# Altium footprint library Buck.PcbLib: 30 footprints (part 1 of 2)
Each footprint in its own frame and in the unit in brackets; x right, y up, seen from the top. Pads: shape width x height; smd on the part's side, far side on the other; paste and mask are expansions set on the pad; w line width, h text height; cw(c..) or ccw(c..) is an arc to the next point about the centre after c.
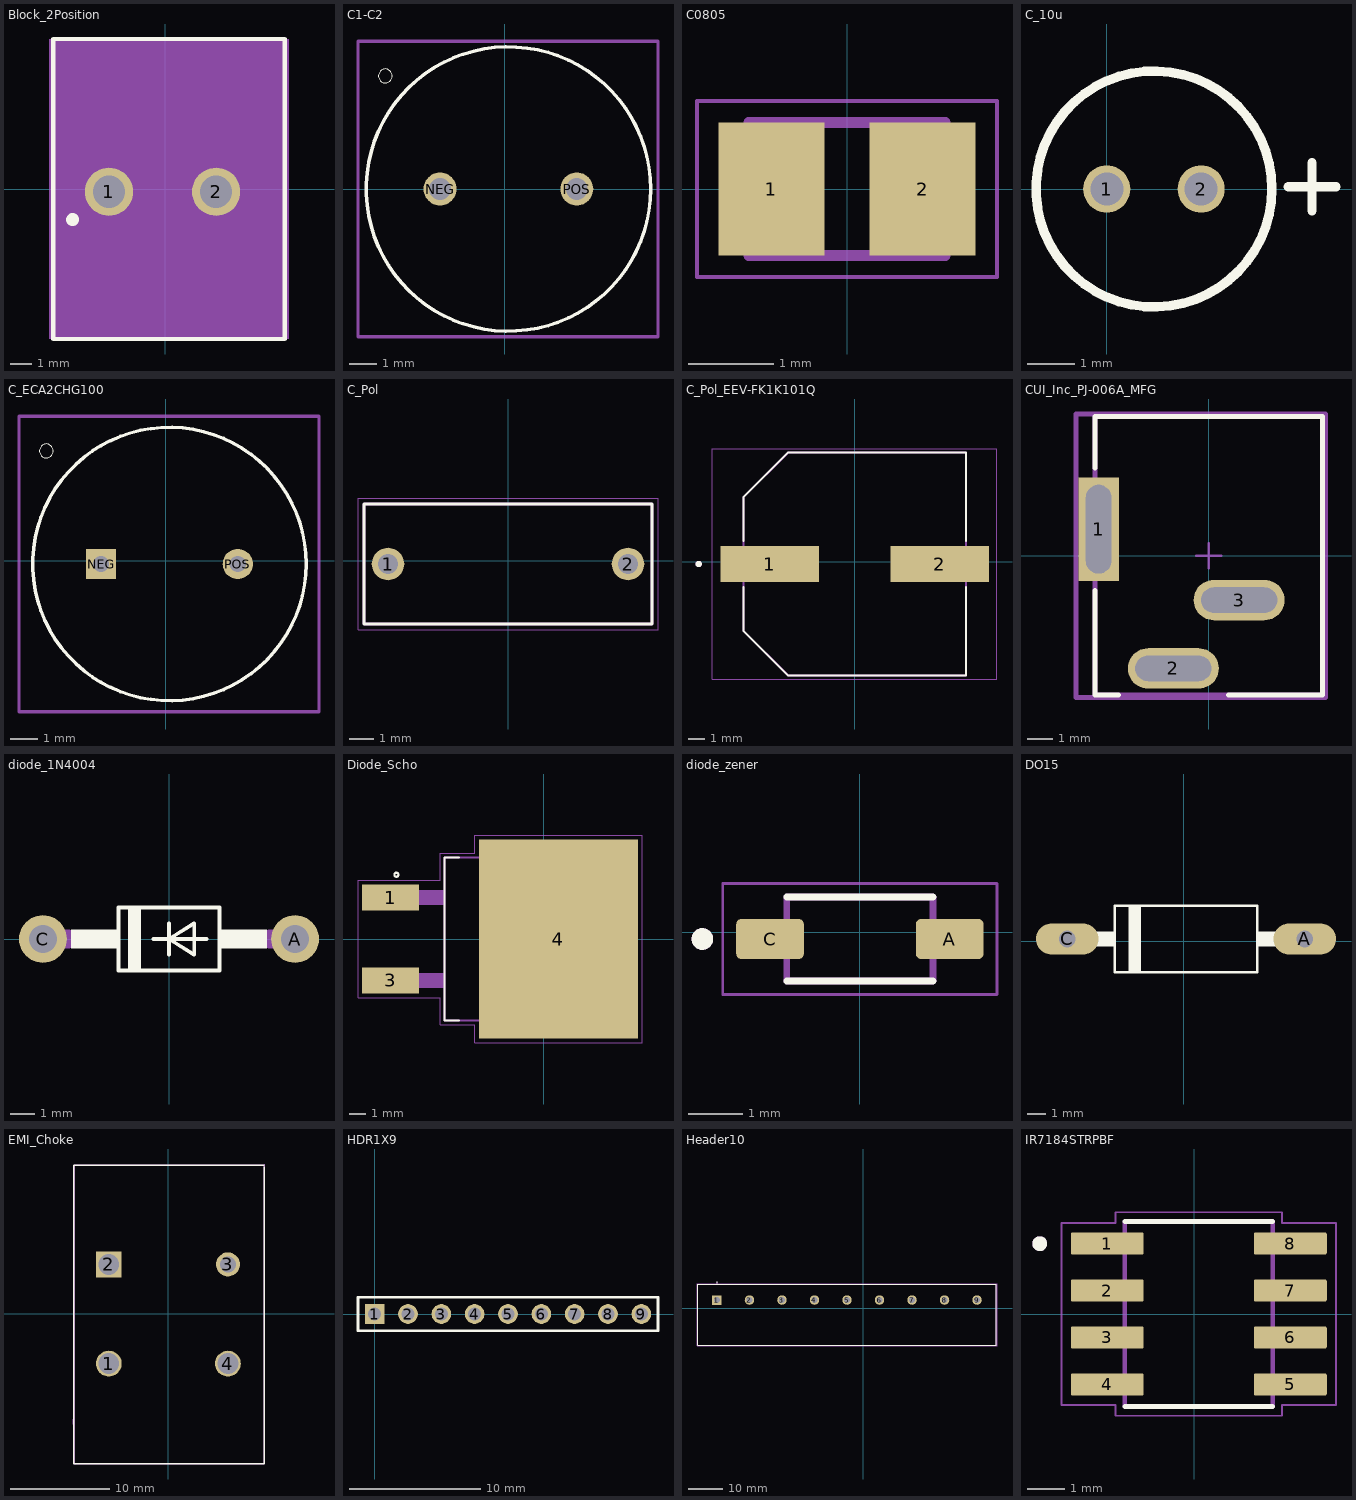
[diagram p0: the footprints below, top view; thin cyan lines are the x and y axes]

## Block_2Position [mm]
pads (2):
  round 2.25 hole 1.5: 1(-2.627,-0.127) 2(2.373,-0.127)
Top Overlay:
  circle w0.4: c-4.327,-1.427 r0.1
  lines w0.2: -5.227,-7 5.573,-7 5.573,-4.387 5.573,-3.157 5.573,4.263 5.573,6.985 ; -5.227,-6.985 -5.227,4.673 -5.227,7 5.573,7
Mechanical 13:
  lines w0.1: -5.127,-6.985 5.473,-6.985 5.473,-4.287 5.473,-3.257 5.473,4.363 5.473,6.985 -5.127,6.985 -5.127,4.573 -5.127,-6.985
Mechanical 15:
  region: 5.773,-6.985 -5.427,-6.985 -5.427,6.985 5.773,6.985
3D body: height 16, standoff 0, extent -5.227,-7 5.573,7

## C1-C2 [mm]
pads (2):
  round 1.208 hole 0.8: NEG(-2.373,0) POS(2.627,0)
Top Overlay:
  circle w0.127: c0.127,0 r5.2
  circle w0: c-4.373,4.135 r0.254
Mechanical 15:
  lines w0.127: -5.373,-5.4 5.597,-5.4 5.597,5.4 -5.373,5.4 -5.373,-5.4
3D body: height 15, standoff 0, extent -5.073,-5.197 5.327,5.197

## C0805 [mm]
pads (2):
  rect 1.24x1.56 smd: 1(-0.885,0) 2(0.885,0)
Mechanical 13:
  lines w0.127: -1.15,-0.78 -1.15,0.78 1.15,0.78 1.15,-0.78 -1.15,-0.78
Mechanical 15:
  lines w0.05: -1.755,-1.03 -1.755,1.03 1.755,1.03 1.755,-1.03 -1.755,-1.03
3D body "rsmd-0805_l2_w1-25_h0-6.stp": height 0.6, standoff 0, extent -1,-0.625 1,0.625

## C_10u [mm]
height 10
pads (2):
  round 1 hole 0.7: 1(0,0) 2(2,0)
Top Overlay:
  circle w0.2: c1,0 r2.5
  lines w0.2: 3.842,0.05 4.858,0.05 ; 4.35,-0.458 4.35,0.558
3D body: height 10, standoff 0, extent -1.5,-2.497 3.5,2.497
3D body: height 0.25, standoff 0, extent 1,0 1,0

## C_ECA2CHG100 [mm]
pads (2):
  rect 1.108x1.108 hole 0.6: NEG(-2.373,-0.127)
  round 1.108 hole 0.6: POS(2.627,-0.127)
Top Overlay:
  circle w0.127: c0.127,-0.127 r5
  circle w0: c-4.373,4.008 r0.254
Mechanical 15:
  lines w0.127: -5.373,-5.527 5.597,-5.527 5.597,5.273 -5.373,5.273 -5.373,-5.527
3D body: height 15, standoff 0, extent -5.073,-5.324 5.327,5.07

## C_Pol [mm]
pads (2):
  round 1.358 hole 0.85: 1(-5,-0.127) 2(5,-0.127)
Top Overlay:
  lines w0.127: -6,-2.627 6,-2.627 6,2.373 -6,2.373 -6,-2.627
Mechanical 13:
  lines w0.127: -6,-2.627 -6,2.373 6,2.373 6,-2.627 -6,-2.627
Mechanical 15:
  lines w0.05: -6.25,-2.877 -6.25,2.623 6.25,2.623 6.25,-2.877 -6.25,-2.877
3D body "step_temp.STEP": height 15, standoff -25, extent -6,-2.627 6,2.373

## C_Pol_EEV-FK1K101Q [mm]
pads (2):
  rect 6.06x2.21 smd: 1(-5.225,-0.127) 2(5.225,-0.127)
Top Overlay:
  circle w0.2: c-9.6,-0.127 r0.1
  lines w0.127: -6.85,-1.547 -6.85,-4.237 -4.11,-6.979 6.85,-6.977 6.85,-1.547 ; -6.85,1.293 -6.85,3.983 -4.11,6.725 6.85,6.723 6.85,1.293
Mechanical 13:
  circle w0.2: c-9.6,-0.127 r0.1
  lines w0.127: -6.85,-4.237 -4.1,-6.977 6.85,-6.977 6.85,6.723 -4.1,6.723 -6.85,3.983 -6.85,-4.237
Mechanical 15:
  lines w0.05: -8.76,-7.227 -8.76,6.973 8.76,6.973 8.76,-7.227 -8.76,-7.227
3D body "CAP-H13.step": height 13.8, standoff 0, extent -6.8,-6.77 6.8,6.77

## CUI_Inc_PJ-006A_MFG [mm]
pads (3):
  rect 1.6x4.1 hole 3.5 slot 1 at 0 deg paste-1000 mask+0: 1(-4.35,1.05)
  rrect100% 3.6x1.6 hole 1 slot 3 at 0 deg paste-1000 mask+0: 2(-1.4,-4.45) 3(1.2,-1.75)
Top Overlay:
  lines w0.2: -4.5,-1.375 -4.5,-5.5 -3.575,-5.5 ; -4.5,3.475 -4.5,5.5 4.5,5.5 4.5,-5.5 0.775,-5.5
Mechanical 10:
  lines w0.2: -5.25,-5.6 4.6,-5.6 4.6,5.6 -5.25,5.6 -5.25,-5.6
  text ".Designator" at -0.325,0 h1
Mechanical 12:
  lines w0.2: -4.5,-5.5 4.5,-5.5 4.5,5.5 -4.5,5.5 -4.5,-5.5
Mechanical 15:
  lines w0.1: -0.5,0 0.5,0 ; 0,-0.5 0,0.5
  lines w0.2: -5.25,-5.6 4.6,-5.6 4.6,5.6 -5.25,5.6 -5.25,-5.6
3D body "Conn_CUI_Inc_PJ-006A_eec.STEP": height 0.25, standoff 0, extent -5.25,-5.6 4.6,5.6

## diode_1N4004 [mil]
pads (2):
  round 76 hole 44: A(200,0) C(-200,0)
Top Overlay:
  region: 155,-15 80,-15 80,15 155,15
  region: -80,-15 -155,-15 -155,15 -80,15
  region: -45,-50 -65,-50 -65,50 -45,50
  lines w6: -25,0 0,0 ; 0,-25 0,0 ; 0,25 0,0 ; 60,0 0,0 ; 0,0 40,25 40,-25 0,0 ; -80,-50 80,-50 80,50 -80,50 -80,-50
Mechanical 13:
  lines w30: -200,0 -160,0 ; 160,0 200,0
3D body "Diode 1N4001.stp": height 98.43, standoff -90.55, extent -197.87,-44.21 217.88,54.22

## Diode_Scho [mm]
pads (3):
  rect 3.5x1.6 smd: 1(-9.367,2.54) 3(-9.367,-2.54)
  rect 9.75x12.2 smd paste-7: 4(0.908,0)
Top Overlay:
  circle w0.127: c-9.017,3.937 r0.127
  lines w0.127: -5.182,-5 -6.067,-5 -6.067,5 -5.182,5
Top Paste:
  region: -1.357,2.362 -2.737,2.362 -2.737,3.83 -1.357,3.83
  region: 0.613,2.362 -0.766,2.362 -0.766,3.83 0.613,3.83
  region: -1.357,-3.834 -2.737,-3.834 -2.737,-2.36 -1.357,-2.36
  region: 0.613,-3.835 -0.765,-3.835 -0.765,-2.36 0.613,-2.36
  region: 0.613,-1.766 -0.765,-1.766 -0.765,-0.295 0.613,-0.295
  region: 0.613,0.295 -0.765,0.295 -0.765,1.765 0.613,1.765
  region: -1.357,0.296 -2.737,0.296 -2.737,1.765 -1.357,1.765
  region: -1.357,-1.767 -2.737,-1.767 -2.737,-0.295 -1.357,-0.295
  region: 4.553,-3.837 3.183,-3.837 3.183,-2.36 4.553,-2.36
  region: 2.583,-3.836 1.209,-3.836 1.209,-2.36 2.583,-2.36
  region: 4.553,2.362 3.177,2.362 3.177,3.83 4.553,3.83
  region: 2.583,2.362 1.207,2.362 1.207,3.83 2.583,3.83
  region: 2.583,0.295 1.209,0.295 1.209,1.765 2.583,1.765
  region: 2.583,-1.767 1.208,-1.767 1.208,-0.295 2.583,-0.295
  region: 4.553,-1.766 3.177,-1.766 3.177,-0.295 4.553,-0.295
  region: 4.553,0.295 3.183,0.295 3.183,1.765 4.553,1.765
Mechanical 13:
  region: -6.067,-2.996 -10.883,-2.996 -10.883,-2.09 -6.067,-2.09
  region: -6.067,2.094 -10.882,2.094 -10.882,2.99 -6.067,2.99
  lines w0.127: -6.067,-5 -6.067,5 4.733,5 4.733,-5 -6.067,-5
Mechanical 15:
  lines w0.05: -11.367,-3.6 -11.367,3.6 -6.317,3.6 -6.317,5.25 -4.217,5.25 -4.217,6.35 6.033,6.35 6.033,-6.35 -4.217,-6.35 -4.217,-5.25 -6.317,-5.25 -6.317,-3.6 -11.367,-3.6
3D body "D2PAK-2 L7805.step": height 5.08, standoff 0, extent -9.575,-4.975 6.05,5.025

## diode_zener [mm]
pads (2):
  rrect25% 1.25x0.74 smd: A(1.66,-0.127) C(-1.66,-0.127)
Top Overlay:
  circle w0.2: c-2.91,-0.127 r0.1
  lines w0.127: -1.35,-0.902 1.35,-0.902 ; -1.35,0.648 1.35,0.648
Mechanical 13:
  circle w0.2: c-2.91,-0.127 r0.1
  lines w0.127: -1.35,-0.902 1.35,-0.902 1.35,0.648 -1.35,0.648 -1.35,-0.902
Mechanical 15:
  lines w0.05: -2.535,-1.152 2.535,-1.152 2.535,0.898 -2.535,0.898 -2.535,-1.152

## DO15 [mil]
pads (2):
  oval 132x66 hole 35.43: A(255,5) C(-245,5)
Top Overlay:
  region: -90,-65.18 -115.3,-65.18 -115.3,75 -90,75
  region: -145,-10.05 -200.63,-10.05 -200.63,20 -145,20
  region: 210,-10.02 155.16,-10.02 155.16,20 210,20
  lines w6: -145,-65 155,-65 155,75 -145,75 -145,-65
Mechanical 13:
  lines w30: -245,5 -205,5 ; 215,5 255,5
3D body "TVS_DO-204AC_DO-15.stp": height 161.42, standoff -118.11, extent -319.68,-65.86 319.69,75.87

## EMI_Choke [mm]
pads (4):
  round 2.6 hole 2.1: 1(-6,-5) 4(6,-5)
  rect 2.6x2.6 hole 2.1: 2(-6,5)
  round 2.43 hole 1.62: 3(6,5)
Top Overlay:
  lines w0.127: 9.652,14.859 9.652,-15.113 -9.525,-15.113 -9.525,14.986 9.652,14.986
Top Paste:
  lines w0.254: -9.525,-10.668 -9.525,-10.795 -6.35,-13.97 -6.35,-14.859
Mechanical 1:
  lines w0.254: -9.525,-11.049 -9.525,-10.668
Mechanical 13:
  lines w0.127: -9.5,-15 -9.5,15 9.5,15 ; -9.398,-15.113 9.652,-15.113 ; 9.652,-14.351 9.652,15.113
Mechanical 15:
  lines w0.05: -9.525,-15.113 9.652,-15.113 9.652,14.986 -9.525,14.986 -9.525,-15.113
3D body "7448042001 (rev1).stp": height 25.72, standoff -4.75, extent -9.339,-13.911 8.661,13.589

## HDR1X9 [mm] "Connector; Header; 9 Position"
pads (9):
  rect 1.5x1.5 hole 1: 1(0,0)
  round 1.5 hole 1: 2(2.54,0) 3(5.08,0) 4(7.62,0) 5(10.16,0) 6(12.7,0) 7(15.24,0) 8(17.78,0) 9(20.32,0)
Top Overlay:
  lines w0.2: -1.27,-1.27 -1.27,1.27 21.59,1.27 21.59,-1.27 -1.27,-1.27
3D body "zl201-9_p2-54_l22-9_w2-54_h8-89.stp": height 8.89, standoff -3.05, extent -1.27,-1.27 21.59,1.27

## Header10 [mm]
pads (9):
  rect 2.775x2.775 hole 1.85: 1(-42.819,2.413)
  round 2.775 hole 1.85: 2(-33.289,2.413) 3(-23.759,2.413) 4(-14.229,2.413) 5(-4.699,2.413) 6(4.831,2.413) 7(14.361,2.413) 8(23.891,2.413) 9(33.421,2.413)
Top Overlay:
  circle w0.2: c-42.819,7.583 r0.1
  lines w0.127: -48.419,-10.797 -48.419,6.983 39.021,6.983 39.021,-10.797 -48.419,-10.797
Mechanical 13:
  circle w0.2: c-42.819,7.583 r0.1
  lines w0.127: -48.419,-10.797 -48.419,6.983 39.021,6.983 39.021,-10.797 -48.419,-10.797
Mechanical 15:
  lines w0.05: -48.669,-11.047 -48.669,7.233 39.271,7.233 39.271,-11.047 -48.669,-11.047

## IR7184STRPBF [mm]
pads (8):
  rrect15% 1.97x0.6 smd: 1(-2.348,1.905) 2(-2.348,0.635) 3(-2.348,-0.635) 4(-2.348,-1.905) 5(2.602,-1.905) 6(2.602,-0.635) 7(2.602,0.635) 8(2.602,1.905)
Top Overlay:
  circle w0.2: c-4.173,1.9 r0.1
  lines w0.127: -1.873,-2.5 2.127,-2.5 ; -1.873,2.5 2.127,2.5
Mechanical 13:
  circle w0.2: c-4.173,1.9 r0.1
  lines w0.127: -1.873,-2.5 -1.873,2.5 2.127,2.5 2.127,-2.5 -1.873,-2.5
Mechanical 15:
  lines w0.05: -3.583,-2.46 -2.123,-2.46 -2.123,-2.75 2.377,-2.75 2.377,-2.46 3.837,-2.46 3.837,2.46 2.377,2.46 2.377,2.75 -2.123,2.75 -2.123,2.46 -3.583,2.46 -3.583,-2.46
3D body "SO8.STEP": height 2, standoff -0.12, extent -2.99,-2.5 3.244,2.5